# EAGLE library part FFKV3 (library con-phoenix-5081)
PHOENIX
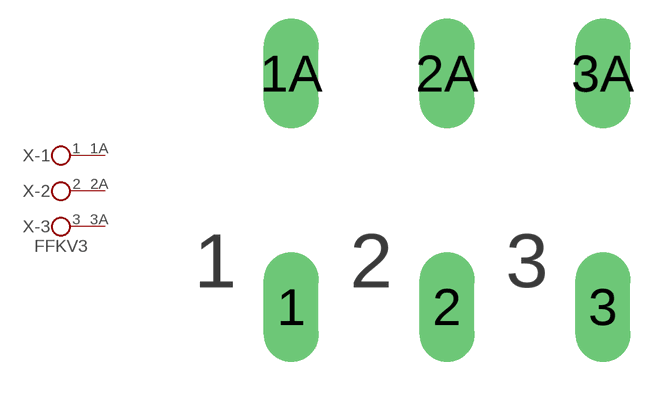
[diagram p10: symbol with the pads of FFKV3; footprint FFKV3]

Designator prefix X; gates -1=KL2 -2=KL2 -3=KL2V

## FFKV3 (OC_FARNELL: unknown; OC_NEWARK: unknown)  [FFKV3]
1  -1:1  pas
1A  -1:2  pas
2  -2:1  pas
2A  -2:2  pas
3  -3:1  pas
3A  -3:2  pas

## Footprint FFKV3 (pad centres in mm)
PHOENIX
drill 1.194 long: 1 -5.08,-3.81; 1A -5.08,3.81; 2 0,-3.81; 2A 0,3.81; 3 5.08,-3.81; 3A 5.08,3.81